# Altium schematic symbol library Power-BMIC-TP4054.SchLib: 1 symbol
Pins are listed as number, name and electrical type; pins without a type are passive.

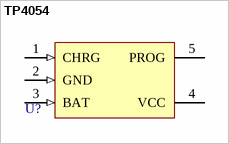
[diagram p0: symbol TP4054]

## TP4054
designator U?
pins: 1 CHRG (in), 2 GND (in), 3 BAT (in), 4 VCC (power), 5 PROG (power)